# Altium footprint library MLACHP_P.PCBLIB: 129 footprints (part 8 of 9)
Each footprint in its own frame and in the unit in brackets; x right, y up, seen from the top. Pads: shape width x height; smd on the part's side, far side on the other; paste and mask are expansions set on the pad; w line width, h text height; cw(c..) or ccw(c..) is an arc to the next point about the centre after c.
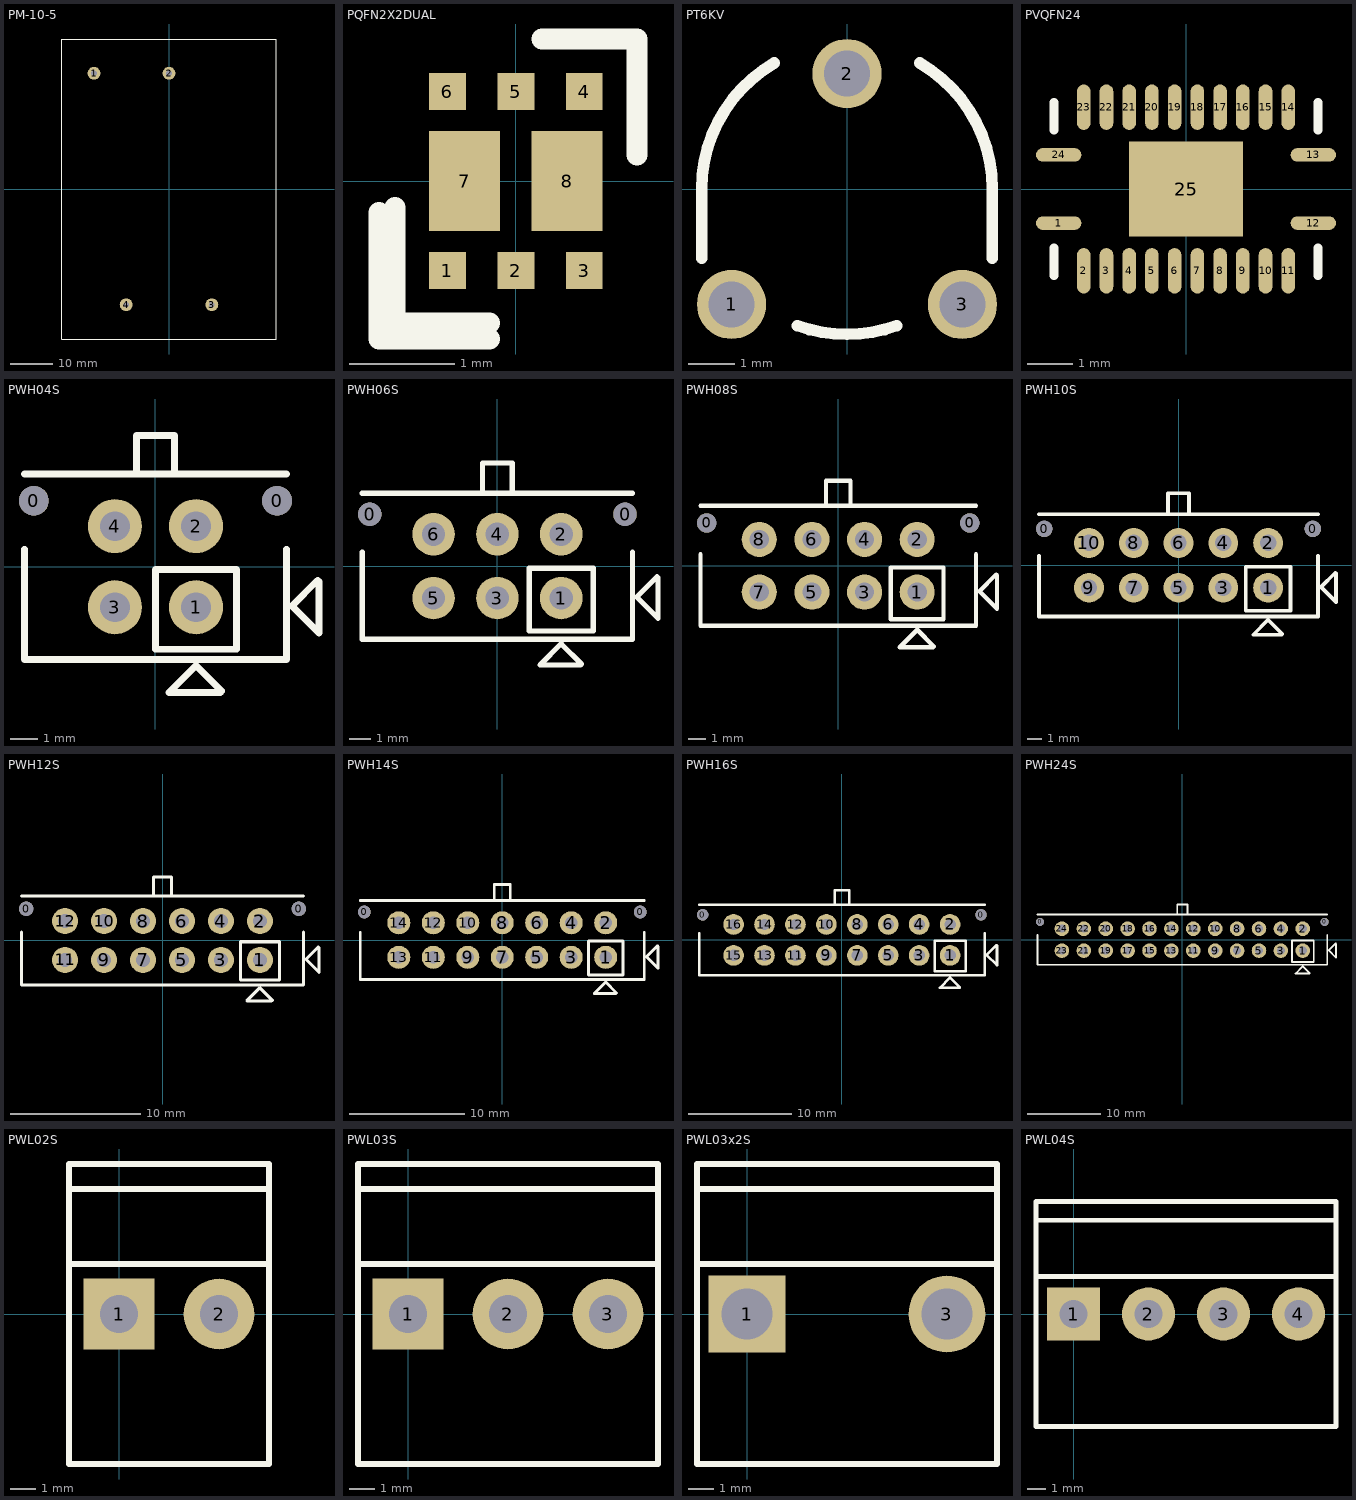
[diagram p7: the footprints below, top view; thin cyan lines are the x and y axes]

## PM-10-5 [mm]
pads (4):
  round 3 hole 1.3: 1(-17.5,27) 2(0,27) 3(10,-27) 4(-10,-27)
TopOverlay:
  lines w0.254: -25,-35 -25,35 25,35 25,-35 -25,-35
3D body: height 23, standoff 0, extent -25,-35 25,35

## PQFN2X2DUAL [mm]
pads (8):
  rect 0.35x0.35 smd paste-0.025 mask+0.05: 1(-0.65,-0.85) 2(0,-0.85) 3(0.65,-0.85) 4(0.65,0.85) 5(0,0.85) 6(-0.65,0.85)
  rect 0.675x0.95 smd paste-10 mask+0.05: 7(-0.487,0) 8(0.487,0)
TopOverlay:
  lines w0.2: -1.3,-0.3 -1.3,-1.5 -0.25,-1.5 ; -1.15,-0.25 -1.15,-1.35 -0.25,-1.35 ; 0.25,1.35 1.15,1.35 1.15,0.25
TopPaste:
  rectangle: -0.815,0.125 -0.165,0.465
  rectangle: -0.815,-0.465 -0.165,-0.125
  rectangle: 0.165,0.125 0.815,0.465
  rectangle: 0.165,-0.465 0.815,-0.125

## PT6KV [mm]
pads (3):
  round 1.5 hole 1: 1(-2.5,-2.5) 2(0,2.5) 3(2.5,-2.5)
TopOverlay:
  lines w0.254: -3.15,-1.5 -3.15,0 cw(c0,0) -1.575,2.728 ; -1.077,-2.96 ccw(c0,0) 1.077,-2.96 ; 1.575,2.728 cw(c0,0) 3.15,0 3.15,-1.5
3D body: height 3.6, standoff 3.3, extent -1.2,-1.198 1.191,1.198
3D body: height 0, standoff -2, extent -0.35,2.35 0.35,2.65
3D body: height 0, standoff -2, extent 2.15,-2.65 2.85,-2.35
3D body: height 0, standoff -2, extent -2.85,-2.65 -2.15,-2.35
3D body: height 3.5, standoff 0, extent -3.15,-3.25 3.15,3.05

## PVQFN24 [mm]
pads (25):
  oval 1x0.3 smd mask+0.15: 1(-2.8,-0.75) 12(2.8,-0.75) 13(2.8,0.75) 24(-2.8,0.75)
  oval 0.3x1 smd mask+0.15: 2(-2.25,-1.8) 3(-1.75,-1.8) 4(-1.25,-1.8) 5(-0.75,-1.8) 6(-0.25,-1.8) 7(0.25,-1.8) 8(0.75,-1.8) 9(1.25,-1.8) 10(1.75,-1.8) 11(2.25,-1.8) 14(2.25,1.8) 15(1.75,1.8) 16(1.25,1.8) 17(0.75,1.8) 18(0.25,1.8) 19(-0.25,1.8) 20(-0.75,1.8) 21(-1.25,1.8) 22(-1.75,1.8) 23(-2.25,1.8)
  rect 2.5x2.1 smd mask+0: 25(0,0)
TopOverlay:
  lines w0.2: -2.9,-1.9 -2.9,-1.3 ; -2.9,1.3 -2.9,1.9 ; 2.9,-1.9 2.9,-1.3 ; 2.9,1.3 2.9,1.9
3D body: height 1, standoff 0.08, extent -2.75,-1.75 2.75,1.75
3D body: height 0.2, standoff 0, extent -2.4,-1.85 -2.1,-1.75
3D body: height 0.2, standoff 0, extent -1.9,-1.85 -1.6,-1.75
3D body: height 0.2, standoff 0, extent -1.4,-1.85 -1.1,-1.75
3D body: height 0.2, standoff 0, extent -2.85,-0.9 -2.75,-0.6
3D body: height 0.2, standoff 0, extent -1.4,-1.85 -1.1,-1.75
3D body: height 0.2, standoff 0, extent -0.9,-1.85 -0.6,-1.75
3D body: height 0.2, standoff 0, extent -0.4,-1.85 -0.1,-1.75
3D body: height 0.2, standoff 0, extent 0.1,-1.85 0.4,-1.75
3D body: height 0.2, standoff 0, extent 0.6,-1.85 0.9,-1.75
3D body: height 0.2, standoff 0, extent 1.1,-1.85 1.4,-1.75
3D body: height 0.2, standoff 0, extent 1.6,-1.85 1.9,-1.75
3D body: height 0.2, standoff 0, extent 2.1,-1.85 2.4,-1.75
3D body: height 0.2, standoff 0, extent 2.75,-0.9 2.85,-0.6
3D body: height 0.2, standoff 0, extent 2.75,0.6 2.85,0.9
3D body: height 0.2, standoff 0, extent 2.1,1.75 2.4,1.85
3D body: height 0.2, standoff 0, extent 1.6,1.75 1.9,1.85
3D body: height 0.2, standoff 0, extent 1.1,1.75 1.4,1.85
3D body: height 0.2, standoff 0, extent 0.6,1.75 0.9,1.85
3D body: height 0.2, standoff 0, extent 0.1,1.75 0.4,1.85
3D body: height 0.2, standoff 0, extent -0.4,1.75 -0.1,1.85
3D body: height 0.2, standoff 0, extent -0.9,1.75 -0.6,1.85
3D body: height 0.2, standoff 0, extent -1.4,1.75 -1.1,1.85
3D body: height 0.2, standoff 0, extent -1.9,1.75 -1.6,1.85
3D body: height 0.2, standoff 0, extent -2.4,1.75 -2.1,1.85
3D body: height 0.2, standoff 0, extent -2.85,0.6 -2.75,0.9

## PWH04S [mm]
pads (6):
  round 1.1 hole 1.1: 0(-4.5,2.44) 0(4.5,2.44)
  round 2 hole 1.1: 1(1.5,-1.5) 2(1.5,1.5) 3(-1.5,-1.5) 4(-1.5,1.5)
TopOverlay:
  lines w0.25: -4.85,0.65 -4.85,-3.43 4.85,-3.43 4.85,0.65 ; -4.85,3.43 4.85,3.43 ; -0.7,3.45 -0.7,4.85 0.7,4.85 0.7,3.45 ; 0,-3.05 0,-0.1 3,-0.1 3,-3.05 0,-3.05 ; 0.5,-4.65 2.4,-4.65 2.45,-4.6 1.5,-3.65 0.5,-4.65 ; 5.05,-1.45 6,-0.5 6.05,-0.55 6.05,-2.45 5.05,-1.45
3D body: height 9, standoff 7, extent -0.7,3.3 0.7,4.85
3D body: height 9.9, standoff 0, extent -0.3,-2.85 0.3,2.85
3D body: height 9.9, standoff 0, extent -3.65,-0.3 3.6,0.3
3D body: height 9.9, standoff 0, extent -4.85,-3.43 5.35,3.43
3D body: height 9.9, standoff 0, extent -4.85,-3.43 4.85,3.43
3D body: height 8, standoff -2, extent 1.1,-1.9 1.9,-1.1
3D body: height 8, standoff -2, extent 1.1,1.1 1.9,1.9
3D body: height 8, standoff -2, extent -1.9,1.1 -1.1,1.9
3D body: height 8, standoff -2, extent -1.9,-1.9 -1.1,-1.1

## PWH06S [mm]
pads (8):
  round 1.1 hole 1.1: 0(-6,2.44) 0(6,2.44)
  round 2 hole 1.1: 1(3,-1.5) 2(3,1.5) 3(0,-1.5) 4(0,1.5) 5(-3,-1.5) 6(-3,1.5)
TopOverlay:
  lines w0.25: -6.35,0.65 -6.35,-3.43 6.35,-3.43 6.35,0.65 ; -6.35,3.43 6.35,3.43 ; -0.7,3.45 -0.7,4.85 0.7,4.85 0.7,3.45 ; 1.5,-3.05 1.5,-0.1 4.5,-0.1 4.5,-3.05 1.5,-3.05 ; 2,-4.65 3.9,-4.65 3.95,-4.6 3,-3.65 2,-4.65 ; 6.55,-1.45 7.5,-0.5 7.55,-0.55 7.55,-2.45 6.55,-1.45
3D body: height 9.9, standoff 0, extent -1.8,-2.85 -1.2,2.85
3D body: height 9.9, standoff 0, extent 1.2,-2.85 1.8,2.85
3D body: height 9.9, standoff 0, extent -5.05,-0.3 5.15,0.3
3D body: height 9.9, standoff 0, extent -6.35,-3.43 6.35,3.43
3D body: height 9.9, standoff 0, extent -6.25,-3.43 6.35,3.43
3D body: height 8, standoff -2, extent 2.6,-1.9 3.4,-1.1
3D body: height 8, standoff -2, extent 2.6,1.1 3.4,1.9
3D body: height 8, standoff -2, extent -0.4,1.1 0.4,1.9
3D body: height 8, standoff -2, extent -0.4,-1.9 0.4,-1.1
3D body: height 8, standoff -2, extent -3.4,1.1 -2.6,1.9
3D body: height 8, standoff -2, extent -3.4,-1.9 -2.6,-1.1
3D body: height 9, standoff 7, extent -0.7,3.3 0.7,4.85

## PWH08S [mm]
pads (10):
  round 1.1 hole 1.1: 0(-7.5,2.44) 0(7.5,2.44)
  round 2 hole 1.1: 1(4.5,-1.5) 2(4.5,1.5) 3(1.5,-1.5) 4(1.5,1.5) 5(-1.5,-1.5) 6(-1.5,1.5) 7(-4.5,-1.5) 8(-4.5,1.5)
TopOverlay:
  lines w0.25: -7.85,0.65 -7.85,-3.43 7.85,-3.43 7.85,0.65 ; -7.85,3.43 7.85,3.43 ; -0.7,3.45 -0.7,4.85 0.7,4.85 0.7,3.45 ; 3,-3.05 6,-3.05 6,-0.1 3,-0.1 3,-3.05 ; 3.5,-4.65 4.5,-3.65 5.45,-4.6 5.4,-4.65 3.5,-4.65 ; 8.05,-1.45 9.05,-2.45 9.05,-0.55 9,-0.5 8.05,-1.45
3D body: height 8, standoff -2, extent -1.9,-1.9 -1.1,-1.1
3D body: height 8, standoff -2, extent -1.9,1.1 -1.1,1.9
3D body: height 8, standoff -2, extent -4.9,1.1 -4.1,1.9
3D body: height 8, standoff -2, extent -4.9,-1.9 -4.1,-1.1
3D body: height 8, standoff -2, extent 1.1,-1.9 1.9,-1.1
3D body: height 8, standoff -2, extent 1.1,1.1 1.9,1.9
3D body: height 8, standoff -2, extent 4.1,1.1 4.9,1.9
3D body: height 8, standoff -2, extent 4.1,-1.9 4.9,-1.1
3D body: height 9.9, standoff 0, extent -7.8,-3.43 7.85,3.43
3D body: height 9.9, standoff 0, extent -7.85,-3.43 7.85,3.43
3D body: height 9.9, standoff 0, extent -6.95,-0.3 6.65,0.3
3D body: height 9.9, standoff 0, extent 2.7,-2.85 3.3,2.85
3D body: height 9.9, standoff 0, extent -0.3,-2.85 0.3,2.85
3D body: height 9.9, standoff 0, extent -3.3,-2.85 -2.7,2.85
3D body: height 9, standoff 7, extent -0.7,3.3 0.7,4.85

## PWH10S [mm]
pads (12):
  round 1.1 hole 1.1: 0(-9,2.44) 0(9,2.44)
  round 2 hole 1.1: 1(6,-1.5) 2(6,1.5) 3(3,-1.5) 4(3,1.5) 5(0,-1.5) 6(0,1.5) 7(-3,-1.5) 8(-3,1.5) 9(-6,-1.5) 10(-6,1.5)
TopOverlay:
  lines w0.25: -9.35,0.65 -9.35,-3.43 9.35,-3.43 9.35,0.65 ; -9.35,3.43 9.35,3.43 ; -0.7,3.43 -0.7,4.83 0.7,4.83 0.7,3.43 ; 4.5,-3.05 7.5,-3.05 7.5,-0.1 4.5,-0.1 4.5,-3.05 ; 5,-4.65 6,-3.65 6.95,-4.6 6.9,-4.65 5,-4.65 ; 9.55,-1.45 10.55,-2.45 10.55,-0.55 10.5,-0.5 9.55,-1.45
3D body: height 8, standoff -2, extent -6.4,-1.9 -5.6,-1.1
3D body: height 8, standoff -2, extent -6.4,1.1 -5.6,1.9
3D body: height 8, standoff -2, extent -0.4,-1.9 0.4,-1.1
3D body: height 8, standoff -2, extent -0.4,1.1 0.4,1.9
3D body: height 8, standoff -2, extent -3.4,1.1 -2.6,1.9
3D body: height 8, standoff -2, extent -3.4,-1.9 -2.6,-1.1
3D body: height 8, standoff -2, extent 2.6,-1.9 3.4,-1.1
3D body: height 8, standoff -2, extent 2.6,1.1 3.4,1.9
3D body: height 8, standoff -2, extent 5.6,1.1 6.4,1.9
3D body: height 8, standoff -2, extent 5.6,-1.9 6.4,-1.1
3D body: height 9.9, standoff 0, extent -9.35,-3.43 9.35,3.43
3D body: height 9.9, standoff 0, extent -9.35,-3.43 9.35,3.43
3D body: height 9.9, standoff 0, extent -8.35,-0.3 8.1,0.3
3D body: height 9.9, standoff 0, extent 4.2,-2.85 4.8,2.85
3D body: height 9.9, standoff 0, extent 1.2,-2.85 1.8,2.85
3D body: height 9.9, standoff 0, extent -1.8,-2.85 -1.2,2.85
3D body: height 9.9, standoff 0, extent -4.8,-2.85 -4.2,2.85
3D body: height 9, standoff 7, extent -0.7,3.3 0.7,4.85

## PWH12S [mm]
pads (14):
  round 1.1 hole 1.1: 0(-10.5,2.44) 0(10.5,2.44)
  round 2 hole 1.1: 1(7.5,-1.5) 2(7.5,1.5) 3(4.5,-1.5) 4(4.5,1.5) 5(1.5,-1.5) 6(1.5,1.5) 7(-1.5,-1.5) 8(-1.5,1.5) 9(-4.5,-1.5) 10(-4.5,1.5) 11(-7.5,-1.5) 12(-7.5,1.5)
TopOverlay:
  lines w0.25: -10.85,0.65 -10.85,-3.43 10.85,-3.43 10.85,0.65 ; -10.85,3.43 10.85,3.43 ; -0.7,3.48 -0.7,4.88 0.7,4.88 0.7,3.48 ; 6,-3.05 6,-0.1 9,-0.1 9,-3.05 6,-3.05 ; 6.5,-4.65 8.4,-4.65 8.45,-4.6 7.5,-3.65 6.5,-4.65 ; 11.05,-1.45 12,-0.5 12.05,-0.55 12.05,-2.45 11.05,-1.45
3D body: height 9, standoff 7, extent -0.7,3.35 0.7,4.9
3D body: height 9.9, standoff 0, extent -6.3,-2.85 -5.7,2.85
3D body: height 9.9, standoff 0, extent -3.3,-2.85 -2.7,2.85
3D body: height 9.9, standoff 0, extent -0.3,-2.85 0.3,2.85
3D body: height 9.9, standoff 0, extent 2.7,-2.85 3.3,2.85
3D body: height 9.9, standoff 0, extent 5.7,-2.85 6.3,2.85
3D body: height 9.9, standoff 0, extent -9.45,-0.3 9.6,0.3
3D body: height 9.9, standoff 0, extent -10.85,-3.43 10.85,3.43
3D body: height 9.9, standoff 0, extent -10.9,-3.43 10.85,3.43
3D body: height 8, standoff -2, extent 7.1,-1.9 7.9,-1.1
3D body: height 8, standoff -2, extent 7.1,1.1 7.9,1.9
3D body: height 8, standoff -2, extent 4.1,1.1 4.9,1.9
3D body: height 8, standoff -2, extent 4.1,-1.9 4.9,-1.1
3D body: height 8, standoff -2, extent -1.9,-1.9 -1.1,-1.1
3D body: height 8, standoff -2, extent -1.9,1.1 -1.1,1.9
3D body: height 8, standoff -2, extent 1.1,1.1 1.9,1.9
3D body: height 8, standoff -2, extent 1.1,-1.9 1.9,-1.1
3D body: height 8, standoff -2, extent -7.9,-1.9 -7.1,-1.1
3D body: height 8, standoff -2, extent -7.9,1.1 -7.1,1.9
3D body: height 8, standoff -2, extent -4.9,1.1 -4.1,1.9
3D body: height 8, standoff -2, extent -4.9,-1.9 -4.1,-1.1

## PWH14S [mm]
pads (16):
  round 1.1 hole 1.1: 0(-12,2.44) 0(12,2.44)
  round 2 hole 1.1: 1(9,-1.5) 2(9,1.5) 3(6,-1.5) 4(6,1.5) 5(3,-1.5) 6(3,1.5) 7(0,-1.5) 8(0,1.5) 9(-3,-1.5) 10(-3,1.5) 11(-6,-1.5) 12(-6,1.5) 13(-9,-1.5) 14(-9,1.5)
TopOverlay:
  lines w0.25: -12.35,0.65 -12.35,-3.43 12.35,-3.43 12.35,0.65 ; -12.35,3.43 12.35,3.43 ; -0.7,3.43 -0.7,4.83 0.7,4.83 0.7,3.43 ; 7.5,-3.05 7.5,-0.1 10.5,-0.1 10.5,-3.05 7.5,-3.05 ; 8,-4.65 9.9,-4.65 9.95,-4.6 9,-3.65 8,-4.65 ; 12.55,-1.45 13.5,-0.5 13.55,-0.55 13.55,-2.45 12.55,-1.45
3D body: height 9, standoff 7, extent -0.7,3.3 0.7,4.85
3D body: height 9.9, standoff 0, extent -7.8,-2.85 -7.2,2.85
3D body: height 9.9, standoff 0, extent -4.8,-2.85 -4.2,2.85
3D body: height 9.9, standoff 0, extent -1.8,-2.85 -1.2,2.85
3D body: height 9.9, standoff 0, extent 1.2,-2.85 1.8,2.85
3D body: height 9.9, standoff 0, extent 4.2,-2.85 4.8,2.85
3D body: height 9.9, standoff 0, extent 7.2,-2.85 7.8,2.85
3D body: height 9.9, standoff 0, extent -11,-0.3 11.15,0.3
3D body: height 9.9, standoff 0, extent -12.35,-3.43 12.35,3.43
3D body: height 9.9, standoff 0, extent -12.35,-3.43 12.35,3.43
3D body: height 8, standoff -2, extent 8.6,-1.9 9.4,-1.1
3D body: height 8, standoff -2, extent 8.6,1.1 9.4,1.9
3D body: height 8, standoff -2, extent 5.6,1.1 6.4,1.9
3D body: height 8, standoff -2, extent 5.6,-1.9 6.4,-1.1
3D body: height 8, standoff -2, extent -0.4,-1.9 0.4,-1.1
3D body: height 8, standoff -2, extent -0.4,1.1 0.4,1.9
3D body: height 8, standoff -2, extent 2.6,1.1 3.4,1.9
3D body: height 8, standoff -2, extent 2.6,-1.9 3.4,-1.1
3D body: height 8, standoff -2, extent -6.4,-1.9 -5.6,-1.1
3D body: height 8, standoff -2, extent -6.4,1.1 -5.6,1.9
3D body: height 8, standoff -2, extent -3.4,1.1 -2.6,1.9
3D body: height 8, standoff -2, extent -3.4,-1.9 -2.6,-1.1
3D body: height 8, standoff -2, extent -9.4,1.1 -8.6,1.9
3D body: height 8, standoff -2, extent -9.4,-1.9 -8.6,-1.1

## PWH16S [mm]
pads (18):
  round 1.1 hole 1.1: 0(-13.5,2.44) 0(13.5,2.44)
  round 2 hole 1.1: 1(10.5,-1.5) 2(10.5,1.5) 3(7.5,-1.5) 4(7.5,1.5) 5(4.5,-1.5) 6(4.5,1.5) 7(1.5,-1.5) 8(1.5,1.5) 9(-1.5,-1.5) 10(-1.5,1.5) 11(-4.5,-1.5) 12(-4.5,1.5) 13(-7.5,-1.5) 14(-7.5,1.5) 15(-10.5,-1.5) 16(-10.5,1.5)
TopOverlay:
  lines w0.25: -13.85,0.65 -13.85,-3.43 13.85,-3.43 13.85,0.65 ; -13.85,3.43 13.85,3.43 ; -0.7,3.43 -0.7,4.83 0.7,4.83 0.7,3.43 ; 9,-3.05 12,-3.05 12,-0.1 9,-0.1 9,-3.05 ; 9.5,-4.65 10.5,-3.65 11.45,-4.6 11.4,-4.65 9.5,-4.65 ; 14.05,-1.45 15.05,-2.45 15.05,-0.55 15,-0.5 14.05,-1.45
3D body: height 8, standoff -2, extent -7.9,-1.9 -7.1,-1.1
3D body: height 8, standoff -2, extent -7.9,1.1 -7.1,1.9
3D body: height 8, standoff -2, extent -10.9,1.1 -10.1,1.9
3D body: height 8, standoff -2, extent -10.9,-1.9 -10.1,-1.1
3D body: height 8, standoff -2, extent -1.9,-1.9 -1.1,-1.1
3D body: height 8, standoff -2, extent -1.9,1.1 -1.1,1.9
3D body: height 8, standoff -2, extent -4.9,1.1 -4.1,1.9
3D body: height 8, standoff -2, extent -4.9,-1.9 -4.1,-1.1
3D body: height 8, standoff -2, extent 4.1,-1.9 4.9,-1.1
3D body: height 8, standoff -2, extent 4.1,1.1 4.9,1.9
3D body: height 8, standoff -2, extent 1.1,1.1 1.9,1.9
3D body: height 8, standoff -2, extent 1.1,-1.9 1.9,-1.1
3D body: height 8, standoff -2, extent 7.1,-1.9 7.9,-1.1
3D body: height 8, standoff -2, extent 7.1,1.1 7.9,1.9
3D body: height 8, standoff -2, extent 10.1,1.1 10.9,1.9
3D body: height 8, standoff -2, extent 10.1,-1.9 10.9,-1.1
3D body: height 9.9, standoff 0, extent -13.85,-3.43 13.85,3.43
3D body: height 9.9, standoff 0, extent -13.85,-3.43 13.85,3.43
3D body: height 9.9, standoff 0, extent -12,-0.3 12.65,0.3
3D body: height 9.9, standoff 0, extent 8.7,-2.85 9.3,2.85
3D body: height 9.9, standoff 0, extent 5.7,-2.85 6.3,2.85
3D body: height 9.9, standoff 0, extent 2.7,-2.85 3.3,2.85
3D body: height 9.9, standoff 0, extent -0.3,-2.85 0.3,2.85
3D body: height 9.9, standoff 0, extent -3.3,-2.85 -2.7,2.85
3D body: height 9.9, standoff 0, extent -6.3,-2.85 -5.7,2.85
3D body: height 9.9, standoff 0, extent -9.3,-2.85 -8.7,2.85
3D body: height 9, standoff 7, extent -0.7,3.3 0.7,4.85

## PWH24S [mm]
pads (26):
  round 1.1 hole 1.1: 0(-19.5,2.44) 0(19.5,2.44)
  round 2 hole 1.1: 1(16.5,-1.5) 2(16.5,1.5) 3(13.5,-1.5) 4(13.5,1.5) 5(10.5,-1.5) 6(10.5,1.5) 7(7.5,-1.5) 8(7.5,1.5) 9(4.5,-1.5) 10(4.5,1.5) 11(1.5,-1.5) 12(1.5,1.5) 13(-1.5,-1.5) 14(-1.5,1.5) 15(-4.5,-1.5) 16(-4.5,1.5) 17(-7.5,-1.5) 18(-7.5,1.5) 19(-10.5,-1.5) 20(-10.5,1.5) 21(-13.5,-1.5) 22(-13.5,1.5) 23(-16.5,-1.5) 24(-16.5,1.5)
TopOverlay:
  lines w0.25: -19.85,0.65 -19.85,-3.43 19.85,-3.43 19.85,0.65 ; -19.85,3.43 19.85,3.43 ; -0.7,3.43 -0.7,4.83 0.7,4.83 0.7,3.43 ; 15,-3.05 15,-0.1 18,-0.1 18,-3.05 15,-3.05 ; 15.5,-4.65 17.4,-4.65 17.45,-4.6 16.5,-3.65 15.5,-4.65 ; 20.05,-1.45 21,-0.5 21.05,-0.55 21.05,-2.45 20.05,-1.45
3D body: height 9.9, standoff 0, extent -15.3,-2.85 -14.7,2.85
3D body: height 9.9, standoff 0, extent -12.3,-2.85 -11.7,2.85
3D body: height 9.9, standoff 0, extent -9.3,-2.85 -8.7,2.85
3D body: height 9.9, standoff 0, extent -6.3,-2.85 -5.7,2.85
3D body: height 9.9, standoff 0, extent -3.3,-2.85 -2.7,2.85
3D body: height 9.9, standoff 0, extent -0.3,-2.85 0.3,2.85
3D body: height 9.9, standoff 0, extent 2.7,-2.85 3.3,2.85
3D body: height 9.9, standoff 0, extent 5.7,-2.85 6.3,2.85
3D body: height 9.9, standoff 0, extent 8.7,-2.85 9.3,2.85
3D body: height 9.9, standoff 0, extent 11.7,-2.85 12.3,2.85
3D body: height 9.9, standoff 0, extent 14.7,-2.85 15.3,2.85
3D body: height 9.9, standoff 0, extent -18.65,-0.3 18.65,0.3
3D body: height 9.9, standoff 0, extent -19.85,-3.43 19.85,3.43
3D body: height 9.9, standoff 0, extent -19.85,-3.43 19.85,3.43
3D body: height 8, standoff -2, extent 16.1,-1.9 16.9,-1.1
3D body: height 8, standoff -2, extent 16.1,1.1 16.9,1.9
3D body: height 8, standoff -2, extent 13.1,1.1 13.9,1.9
3D body: height 8, standoff -2, extent 13.1,-1.9 13.9,-1.1
3D body: height 8, standoff -2, extent 7.1,-1.9 7.9,-1.1
3D body: height 8, standoff -2, extent 7.1,1.1 7.9,1.9
3D body: height 8, standoff -2, extent 10.1,1.1 10.9,1.9
3D body: height 8, standoff -2, extent 10.1,-1.9 10.9,-1.1
3D body: height 8, standoff -2, extent 1.1,-1.9 1.9,-1.1
3D body: height 8, standoff -2, extent 1.1,1.1 1.9,1.9
3D body: height 8, standoff -2, extent 4.1,1.1 4.9,1.9
3D body: height 8, standoff -2, extent 4.1,-1.9 4.9,-1.1
3D body: height 8, standoff -2, extent -4.9,-1.9 -4.1,-1.1
3D body: height 8, standoff -2, extent -4.9,1.1 -4.1,1.9
3D body: height 8, standoff -2, extent -1.9,1.1 -1.1,1.9
3D body: height 8, standoff -2, extent -1.9,-1.9 -1.1,-1.1
3D body: height 8, standoff -2, extent -10.9,-1.9 -10.1,-1.1
3D body: height 8, standoff -2, extent -10.9,1.1 -10.1,1.9
3D body: height 8, standoff -2, extent -7.9,1.1 -7.1,1.9
3D body: height 8, standoff -2, extent -7.9,-1.9 -7.1,-1.1
3D body: height 8, standoff -2, extent -16.9,-1.9 -16.1,-1.1
3D body: height 8, standoff -2, extent -16.9,1.1 -16.1,1.9
3D body: height 8, standoff -2, extent -13.9,1.1 -13.1,1.9
3D body: height 8, standoff -2, extent -13.9,-1.9 -13.1,-1.1
3D body: height 9, standoff 7, extent -0.7,3.3 0.7,4.85

## PWL02S [mm]
pads (2):
  rect 2.8x2.8 hole 1.5: 1(0,0)
  round 2.8 hole 1.5: 2(3.96,0)
TopOverlay:
  lines w0.254: -1.98,1.98 5.94,1.98 ; -1.98,4.95 5.94,4.95 ; -1.98,-5.94 5.94,-5.94 5.94,5.94 -1.98,5.94 -1.98,-5.94
3D body: height 12, standoff -3.5, extent 3.36,-0.6 4.56,0.6
3D body: height 12, standoff -3.5, extent -0.6,-0.6 0.6,0.6
3D body: height 12.5, standoff 0, extent -1.98,2 5.94,5.94
3D body: height 3.3, standoff 0, extent -1.98,-5.94 5.94,5.94

## PWL03S [mm]
pads (3):
  rect 2.8x2.8 hole 1.5: 1(0,0)
  round 2.8 hole 1.5: 2(3.96,0) 3(7.92,0)
TopOverlay:
  lines w0.254: -1.98,1.98 9.9,1.98 ; -1.98,4.95 9.9,4.95 ; -1.98,-5.94 -1.98,5.94 9.9,5.94 9.9,-5.94 -1.98,-5.94
3D body: height 3.3, standoff 0, extent -1.98,-5.94 9.9,5.94
3D body: height 12.5, standoff 0, extent -1.98,2 9.9,5.94
3D body: height 12, standoff -3.5, extent -0.6,-0.6 0.6,0.6
3D body: height 12, standoff -3.5, extent 3.36,-0.6 4.56,0.6
3D body: height 12, standoff -3.5, extent 7.32,-0.6 8.52,0.6

## PWL03x2S [mil]
pads (2):
  rect 120x120 hole 80: 1(0,0)
  round 120 hole 80: 3(311.81,0)
TopOverlay:
  lines w10: -77.95,77.95 389.76,77.95 ; -77.95,194.88 389.76,194.88 ; -77.95,-233.86 -77.95,233.86 389.76,233.86 389.76,-233.86 -77.95,-233.86
3D body: height 129.92, standoff 0, extent -77.95,-233.86 389.76,233.86
3D body: height 492.13, standoff 0, extent -77.95,78.74 389.76,233.86
3D body: height 472.44, standoff -137.8, extent -23.62,-23.62 23.62,23.62
3D body: height 472.44, standoff -137.8, extent 288.19,-23.62 335.43,23.62

## PWL04S [mm]
pads (4):
  rect 2.8x2.8 hole 1.5: 1(0,0)
  round 2.8 hole 1.5: 2(3.96,0) 3(7.92,0) 4(11.88,0)
TopOverlay:
  lines w0.254: -1.98,1.98 13.86,1.98 ; -1.98,4.95 13.86,4.95 ; -1.98,-5.94 -1.98,5.94 13.86,5.94 13.86,-5.94 -1.98,-5.94
3D body: height 12, standoff -3.5, extent 11.28,-0.6 12.48,0.6
3D body: height 12, standoff -3.5, extent 7.32,-0.6 8.52,0.6
3D body: height 12, standoff -3.5, extent 3.36,-0.6 4.56,0.6
3D body: height 12, standoff -3.5, extent -0.6,-0.6 0.6,0.6
3D body: height 12.5, standoff 0, extent -1.98,2 13.86,5.94
3D body: height 3.3, standoff 0, extent -1.98,-5.94 13.86,5.94